# EAGLE library part USD-SOCKET-CHINA (library BaseApp)
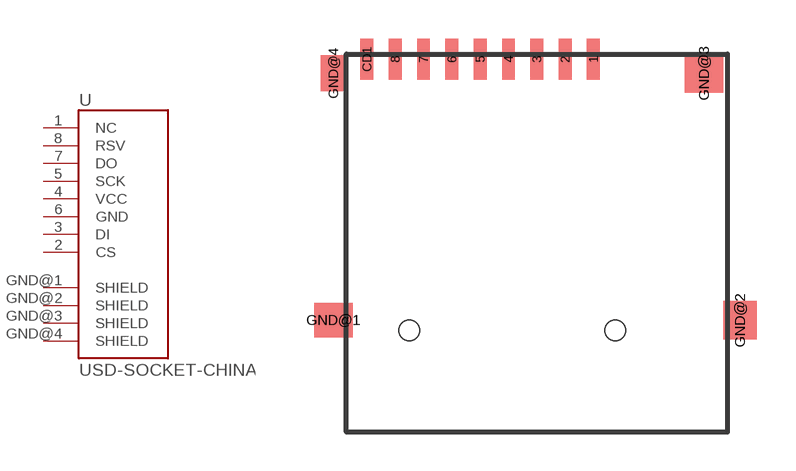
[diagram p85: symbol with the pads of USD-SOCKET-PP; footprint USD-SOCKET-PP]

Designator prefix -

## USD-SOCKET-CHINA (ALIEXPRESS: http://www.aliexpress.com/item/10-Pcs-lot-TransFlash-TF-Micro-SD-Card-Socket-Adapter/1135266918.html), USD-SOCKET-CHINA'  [USD-SOCKET-PP]
1  NC
2  CS
3  DI
4  VCC
5  SCK
6  GND
7  DO
8  RSV
GND@1  SHIELD
GND@2  SHIELD
GND@3  SHIELD
GND@4  SHIELD

## Footprint USD-SOCKET-PP (pad centres in mm)
smd 0.5 x 1.6: 1 2.2,-1.2; 2 1.1,-1.2; 3 0,-1.2; 4 -1.1,-1.2; 5 -2.2,-1.2; 6 -3.3,-1.2; 7 -4.4,-1.2; 8 -5.5,-1.2; CD1 -6.6,-1.2
smd 1.5 x 1.35: GND@1 -7.9,-11.35
smd 1.3 x 1.5: GND@2 7.9,-11.35
smd 1.5 x 1.5: GND@3 6.5,-1.75
smd 1 x 1.4: GND@4 -7.9,-1.75
hole 0.8 at -4.95,-11.75
hole 0.8 at 3.05,-11.75